# Altium schematic symbol library passive components.SchLib: 32 symbols
Pins are listed as number, name and electrical type; pins without a type are passive.

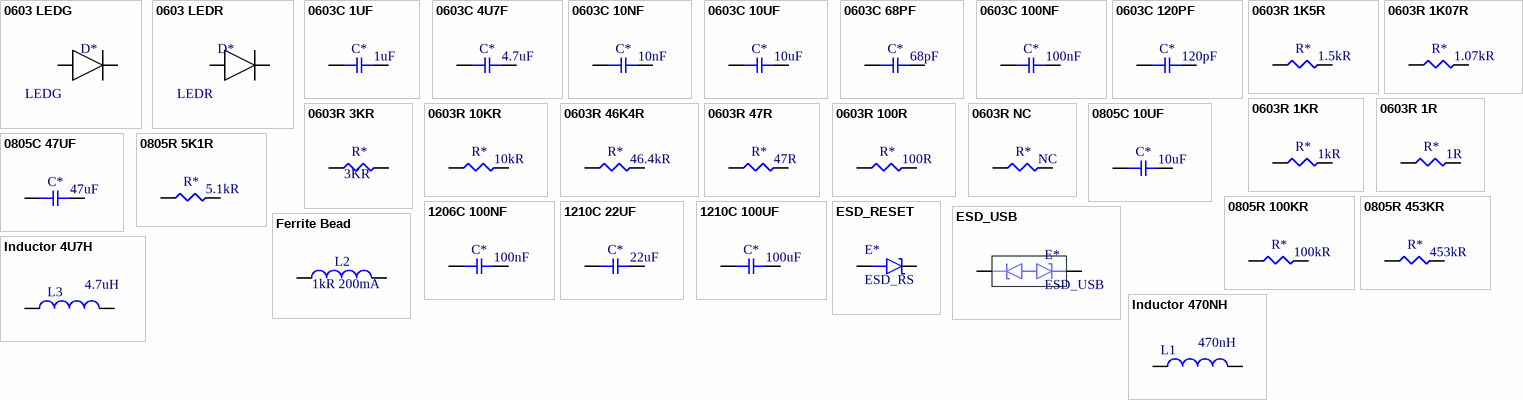
[diagram p0: symbols 0603 LEDG to Inductor 470NH]

## 0603 LEDG
designator D*  value LEDG  (hidden comment: 0603 LEDG)
Supplier 1: Digi-Key; Supplier Part Number 1: 160-1183-6-ND
footprint 0603-LED
pins: 1, 2

## 0603 LEDR
designator D*, comment LEDR
Supplier 1: Digi-Key; Supplier Part Number 1: 160-1181-6-ND; Value: LEDR
footprint 0603-LED
pins: 1, 2

## 0603C 1UF
designator C*  value 1uF  (hidden comment: *)
Supplier 1: Digi-Key; Supplier Part Number 1: 490-6408-1-ND
footprint 0603-CAP
pins: 1, 2

## 0603C 4U7F
designator C*  value 4.7uF  (hidden comment: *)
Supplier 1: Digi-Key; Supplier Part Number 1: 399-3482-1-ND
footprint 0603-CAP
pins: 1, 2

## 0603C 10NF
designator C*  value 10nF  (hidden comment: *)
Supplier 1: Digi-Key; Supplier Part Number 1: 490-8028-1-ND
footprint 0603-CAP
pins: 1, 2

## 0603C 10UF
designator C*  value 10uF  (hidden comment: *)
Supplier 1: Digi-Key; Supplier Part Number 1: 490-10474-1-ND
footprint 0603-CAP
pins: 1, 2

## 0603C 68PF
designator C*  value 68pF  (hidden comment: *)
Supplier 1: Digi-Key; Supplier Part Number 1: 311-4039-1-ND
footprint 0603-CAP
pins: 1, 2

## 0603C 100NF
designator C*  value 100nF  (hidden comment: *)
Supplier 1: Digi-Key; Supplier Part Number 1: 490-8020-1-ND
footprint 0603-CAP
pins: 1, 2

## 0603C 120PF
designator C*  value 120pF  (hidden comment: *)
Supplier 1: Digi-Key; Supplier Part Number 1: 490-1429-1-ND
footprint 0603-CAP
pins: 1, 2

## 0603R 1K5R
designator R*  value 1.5kR  (hidden comment: *)
Package: 0603; Supplier 1: Digi-Key; Supplier Part Number 1: 311-1.50KHRCT-ND
footprint 0603-RES
pins: 1, 2

## 0603R 1K07R
designator R*  value 1.07kR  (hidden comment: *)
Package: 0603; Supplier 1: Digi-Key; Supplier Part Number 1: 311-1.07KHRCT-ND
footprint 0603-RES
pins: 1, 2

## 0603R 1KR
designator R*  value 1kR  (hidden comment: *)
Package: 0603; Supplier 1: Digi-Key; Supplier Part Number 1: 311-1.00KHRDKR-ND
footprint 0603-RES
pins: 1, 2

## 0603R 1R
designator R*  value 1R  (hidden comment: *)
Package: 0603; Supplier 1: Digi-Key; Supplier Part Number 1: 311-1.00HRCT-ND
footprint 0603-RES
pins: 1, 2

## 0603R 3KR
designator R*  value 3KR  (hidden comment: *)
Supplier 1: Digi-Key; Supplier Part Number 1: 311-3.00KHRCT-ND
footprint 0603-RES
pins: 1, 2

## 0603R 10KR
designator R*  value 10kR  (hidden comment: *)
Package: 0603; Supplier 1: Digi-Key; Supplier Part Number 1: 311-10.0KHRCT-ND
footprint 0603-RES
pins: 1, 2

## 0603R 46K4R
designator R*  value 46.4kR  (hidden comment: *)
Package: 0603; Supplier 1: Digi-Key; Supplier Part Number 1: 311-46.4KHRCT-ND
footprint 0603-RES
pins: 1, 2

## 0603R 47R
designator R*  value 47R  (hidden comment: *)
Package: 0603; Supplier 1: Digi-Key; Supplier Part Number 1: 311-47.0HRDKR-ND
footprint 0603-RES
pins: 1, 2

## 0603R 100R
designator R*  value 100R  (hidden comment: *)
Package: 0603; Supplier 1: Digi-Key; Supplier Part Number 1: 311-100HRCT-ND
footprint 0603-RES
pins: 1, 2

## 0603R NC
designator R*  value NC  (hidden comment: *)
Package: 0603
footprint 0603-RES
pins: 1, 2

## 0805C 10UF
designator C*  value 10uF  (hidden comment: *)
Supplier 1: Digi-Key; Supplier Part Number 1: 445-7617-1-ND
footprint 0805-CAP
pins: 1, 2

## 0805C 47UF
designator C*  value 47uF  (hidden comment: *)
Supplier 1: Digi-Key; Supplier Part Number 1: 490-9949-1-ND
footprint 0805-CAP
pins: 1, 2

## 0805R 5K1R
designator R*  value 5.1kR  (hidden comment: *)
Supplier 1: Digi-Key; Supplier Part Number 1: 2019-RK73H2ATTD5101FCT-ND
footprint 0805-RES
pins: 1, 2

## 0805R 100KR
designator R*  value 100kR  (hidden comment: *)
Supplier 1: Digi-Key; Supplier Part Number 1: P100KCCT-ND
footprint 0805-RES
pins: 1, 2

## 0805R 453KR
designator R*  value 453kR  (hidden comment: *)
Supplier 1: Digi-Key; Supplier Part Number 1: P453KCCT-ND
footprint 0805-RES
pins: 1, 2

## 1206C 100NF
designator C*  value 100nF  (hidden comment: *)
Package: 1206; Supplier 1: Digi-Key; Supplier Part Number 1: 311-1179-6-ND
footprint 1206-CAP
pins: 1, 2

## 1210C 22UF
designator C*  value 22uF  (hidden comment: *)
Supplier 1: Digi-Key; Supplier Part Number 1: 490-10560-1-ND
footprint 1210-CAP
pins: 1, 2

## 1210C 100UF
designator C*  value 100uF  (hidden comment: *)
Supplier 1: Digi-Key; Supplier Part Number 1: 587-3152-6-ND
footprint 1210-CAP
pins: 1, 2

## ESD_RESET
designator E*, comment ESD_RS
Supplier 1: Digi-Key; Supplier Part Number 1: F7701CT-ND
footprint ESD_RS (ESD protector 3.3V)
pins: 1, 2

## ESD_USB
designator E*
Supplier 1: Digi-Key; Supplier Part Number 1: 1727-3838-1-ND
footprint ESD_USB (ESD protector 5V)
pins: 1, 2

## Ferrite Bead
designator L2  value 1kR 200mA  (hidden comment: *)
Supplier 1: Digi-Key; Supplier Part Number 1: 732-4484-1-ND
footprint 0603-FerritBead
pins: 1, 2

## Inductor 4U7H
designator L3  value 4.7uH  (hidden comment: *)
Supplier 1: Digi-Key; Supplier Part Number 1: 490-15954-1-ND
footprint Inductor 4U7H
pins: 1, 2

## Inductor 470NH
designator L1  value 470nH  (hidden comment: *)
Supplier 1: Digi-Key; Supplier Part Number 1: 445-3878-1-ND
footprint Inductor 470NH
pins: 1, 2